# EAGLE library part BQ2970 (library UIO-John)
BQ2970 Li-Ion/Li Polymer Advanced Single-Cell Battery Protector IC Family
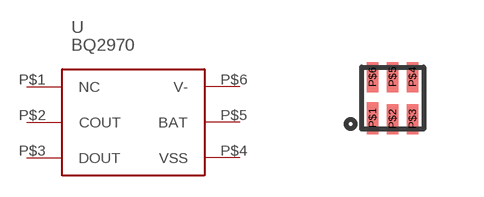
[diagram p2: symbol with the pads of WSON-6; footprint WSON-6]

Designator prefix -

## BQ2970 (MPN: BQ2970)  [WSON-6]
P$1  NC
P$2  COUT
P$3  DOUT
P$4  VSS
P$5  BAT
P$6  V-

## Footprint WSON-6 (pad centres in mm)
smd 0.28 x 0.8: P$1 -0.5,-0.5
smd 0.28 x 0.75: P$2 0,-0.525; P$3 0.5,-0.525; P$4 0.5,0.525; P$5 0,0.525; P$6 -0.5,0.525